# EAGLE library part LT4363_1 (library freBotLib)
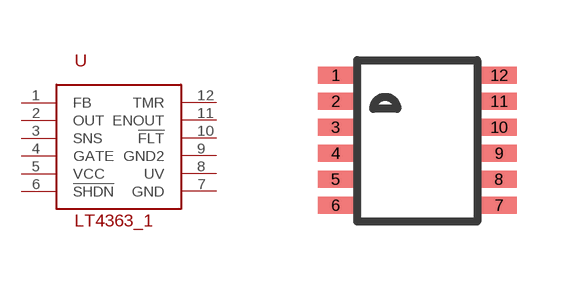
[diagram p3: symbol with the pads of MSOP12; footprint MSOP12]

Designator prefix -

## LT4363_1  [MSOP12]
1  FB
2  OUT
3  SNS
4  GATE
5  VCC
6  !SHDN
7  GND
8  UV
9  GND2
10  !FLT
11  ENOUT
12  TMR

## Footprint MSOP12 (pad centres in mm)
smd 0.889 x 0.42: 1 -2.045,1.637; 2 -2.045,0.987; 3 -2.045,0.337; 4 -2.045,-0.314; 5 -2.045,-0.964; 6 -2.045,-1.613; 7 2.045,-1.613; 8 2.045,-0.964; 9 2.045,-0.314; 10 2.045,0.337; 11 2.045,0.987; 12 2.045,1.637